# EAGLE library part AD5933 (library AD5933)
Check availability <https://pricing.snapeda.com/parts/AD5933/Analog%20Devices%2C%20Inc./view-part?ref=eda>
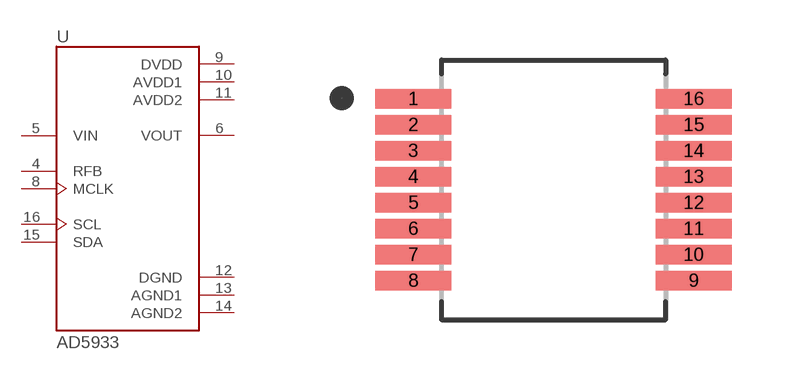
[diagram p0: symbol with the pads of SOP65P780X200-16N; footprint SOP65P780X200-16N]

Designator prefix U

## AD5933 (AVAILABILITY: Not in stock; CHECK_PRICES: https://www.snapeda.com/parts/AD5933/Analog+Devices/view-part/?ref=eda; DESCRIPTION: Direct Digital Synthesizer 16.776MHz 1-DAC 12bit Serial (I2C) 16-Pin SSOP Tube; MF: Analog Devices, Inc.; MP: AD5933; PACKAGE: SSOP-16 Analog Devices; PRICE: None; SNAPEDA_LINK: https://www.snapeda.com/parts/AD5933/Analog+Devices/view-part/?ref=snap)  [SOP65P780X200-16N]
4  RFB  in
5  VIN  in
6  VOUT  out
8  MCLK  in
9  DVDD  pwr
10  AVDD1  pwr
11  AVDD2  pwr
12  DGND  pwr
13  AGND1  pwr
14  AGND2  pwr
15  SDA
16  SCL  in

## Footprint SOP65P780X200-16N (pad centres in mm)
smd 1.9 x 0.48: 1 -3.505,2.275; 2 -3.505,1.625; 3 -3.505,0.975; 4 -3.505,0.325; 5 -3.505,-0.325; 6 -3.505,-0.975; 7 -3.505,-1.625; 8 -3.505,-2.275; 9 3.505,-2.275; 10 3.505,-1.625; 11 3.505,-0.975; 12 3.505,-0.325; 13 3.505,0.325; 14 3.505,0.975; 15 3.505,1.625; 16 3.505,2.275